# Altium schematic symbol library Schlib1.SchLib: 3 symbols
Pins are listed as number, name and electrical type; pins without a type are passive.

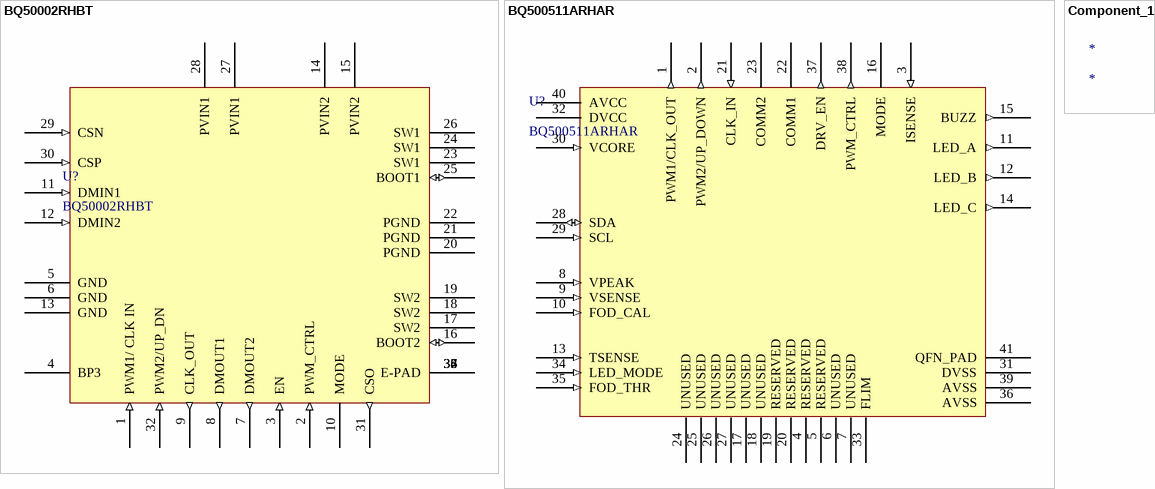
[diagram p0: symbols BQ50002RHBT to Component_1]

## BQ50002RHBT
designator U?
Wireless Charging ICs Wireless Power Transmitter Analog Front End 32-VQFN -40 to 125; Manufacturer: Texas Instruments; Operating Supply Current: 1.5mA; Min Supply Voltage: 4.5V; Max Supply Voltage: 5.5V; Supplier 1: Arrow Electronics; Manufacturer Part Number: BQ50002RHBT; RoHS: Yes; Category: Power Management ICs; Stock 1: 2; Pricing 1: 0=1.26010, 1=0.79250 (USD); Mount: Surface Mount; Case/Package: VQFN; Number of Pins: 32; Contact Plating: Gold; Min Operating Temperature: -40°C; Max Operating Temperature: 125°C; Packaging: Cut Tape; Series: -; Lead Free: Lead Free; RoHS Compliant: Yes; Reach SVHC Compliant: Yes; ComponentLink1URL: http://www.ti.com/general/docs/lit/getliterature.tsp?genericPartNumber=BQ50002&&fileType=pdf&src-supplier=Element14; ComponentLink1Description: http://www.ti.com/general/docs/lit/getliterature.tsp?genericPartNumber=BQ50002&&fileType=pdf&src-supplier=Element14; ComponentLink2URL: http://www.ti.com/general/docs/lit/getliterature.tsp?genericPartNumber=BQ50002&&fileType=pdf&src-supplier=Avnet; ComponentLink2Description: http://www.ti.com/general/docs/lit/getliterature.tsp?genericPartNumber=BQ50002&&fileType=pdf&src-supplier=Avnet; ComponentLink3URL: http://www.ti.com/lit/ds/symlink/bq50002.pdf?src-supplier=Digi-Key; ComponentLink3Description: http://www.ti.com/lit/ds/symlink/bq50002.pdf?src-supplier=Digi-Key; ComponentLink4URL: http://www.ti.com/general/docs/lit/getliterature.tsp?genericPartNumber=BQ50002&amp;&amp;fileType=pdf&src-supplier=Farnell; ComponentLink4Description: http://www.ti.com/general/docs/lit/getliterature.tsp?genericPartNumber=BQ50002&amp;&amp;fileType=pdf&src-supplier=Farnell; ComponentLink5URL: http://www.ti.com/general/docs/lit/getliterature.tsp?genericPartNumber=BQ50002&&fileType=pdf&src-supplier=Farnell; ComponentLink5Description: http://www.ti.com/general/docs/lit/getliterature.tsp?genericPartNumber=BQ50002&&fileType=pdf&src-supplier=Farnell; Supplier Part Number 1: BQ50002RHBT
footprint BQ50002_VQFN-32
pins: 1 PWM1/ CLK IN (in), 2 PWM_CTRL (in), 3 EN (in), 4 BP3, 5 GND (power), 6 GND (power), 7 DMOUT2 (out), 8 DMOUT1 (out), 9 CLK_OUT (out), 10 MODE, 11 DMIN1 (in), 12 DMIN2 (in), 13 GND (power), 14 PVIN2 (power), 15 PVIN2 (power), 16 BOOT2 (io), 17 SW2 (power), 18 SW2 (power), 19 SW2 (power), 20 PGND (power), 21 PGND (power), 22 PGND (power), 23 SW1 (power), 24 SW1 (power), 25 BOOT1 (io), 26 SW1 (power), 27 PVIN1 (power), 28 PVIN1 (power), 29 CSN (in), 30 CSP (in), 31 CSO (out), 32 PWM2/UP_DN (in), 33 E-PAD, 34, 35, 36, 37, 38

## BQ500511ARHAR
designator U?
Wireless Power Transmitter Controller 40-VQFN -40 to 85; Manufacturer: Texas Instruments; Operating Supply Current: 3.45mA; Supplier 1: Arrow Electronics; Manufacturer Part Number: BQ500511ARHAR; RoHS: Yes; Category: Power Management ICs; Stock 1: 1; Pricing 1: 1=4.06200 (USD); Mount: Surface Mount; Case/Package: VQFN; Packaging: Cut Tape; Lead Free: Lead Free; RoHS Compliant: Yes; ComponentLink1URL: http://www.ti.com/lit/ds/symlink/bq500511a.pdf?src-supplier=Digi-Key; ComponentLink1Description: http://www.ti.com/lit/ds/symlink/bq500511a.pdf?src-supplier=Digi-Key; Supplier Part Number 1: BQ500511ARHAR
footprint QFN50P600X600X100-41N
pins: 1 PWM1/CLK_OUT (out), 2 PWM2/UP_DOWN (out), 3 ISENSE (in), 4 RESERVED, 5 RESERVED, 6 UNUSED, 7 UNUSED, 8 VPEAK (in), 9 VSENSE (in), 10 FOD_CAL (in), 11 LED_A (out), 12 LED_B (out), 13 TSENSE (in), 14 LED_C (out), 15 BUZZ (out), 16 MODE, 17 UNUSED, 18 UNUSED, 19 RESERVED, 20 RESERVED, 21 CLK_IN (in), 22 COMM1, 23 COMM2, 24 UNUSED, 25 UNUSED, 26 UNUSED, 27 UNUSED, 28 SDA (io), 29 SCL (in), 30 VCORE (in), 31 DVSS (power), 32 DVCC (power), 33 FLIM, 34 LED_MODE (in), 35 FOD_THR (in), 36 AVSS (power), 37 DRV_EN (out), 38 PWM_CTRL (out), 39 AVSS (power), 40 AVCC (power), 41 QFN_PAD (power)

## Component_1
designator *